# EAGLE library part AP9214L_DEV (library Blizzard_Library)
SINGLE CHIP SOLUTION FOR 1-CELL Li+ BATTERY PACK Option 1
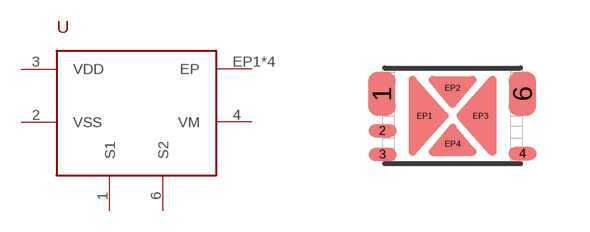
[diagram p4: symbol with the pads of U-DFN2535-6_PKG; footprint U-DFN2535-6_PKG]

Designator prefix U

## AP9214L_DEV (PN: AP9214L; VERSION: A)  [U-DFN2535-6_PKG]
1  S1
2  VSS
3  VDD
4  VM
6  S2
EP1  EP
EP2  EP
EP3  EP
EP4  EP

## Footprint U-DFN2535-6_PKG (pad centres in mm)
U-DFN2535-6 Type B
smd 0.69 x 1.1: 1 -1.77,0.55; 6 1.75,0.55
smd 0.69 x 0.32: 2 -1.75,-0.38; 3 -1.75,-0.97; 4 1.75,-0.95
smd 0.1 x 0.1: EP1 -0.7,0; EP2 0,0.7; EP3 0.7,0; EP4 0,-0.7